# Altium footprint library TERM_3.50MM_3x1_0.PcbLib: 1 footprints
Each footprint in its own frame and in the unit in brackets; x right, y up, seen from the top. Pads: shape width x height; smd on the part's side, far side on the other; paste and mask are expansions set on the pad; w line width, h text height; cw(c..) or ccw(c..) is an arc to the next point about the centre after c.
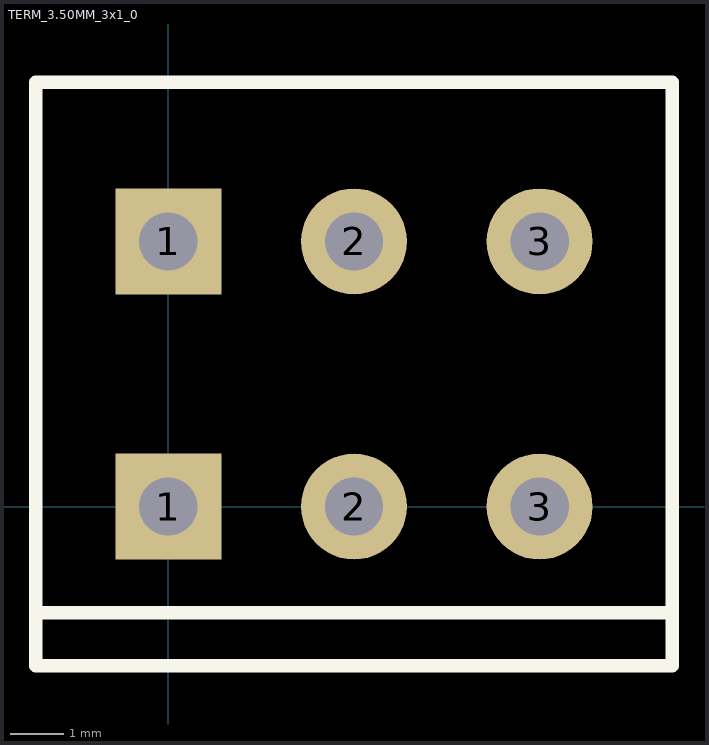
[diagram p0: the footprint, top view; thin cyan lines are the x and y axes]

## TERM_3.50MM_3x1_0 [mm]
pads (6):
  rect 2x2 hole 1.1: 1(0,0) 1(0,5)
  round 2 hole 1.1: 2(3.5,0) 2(3.5,5) 3(7,0) 3(7,5)
Top Overlay:
  lines w0.254: -2.5,-2 9.5,-2 ; -2.5,-3 -2.5,8 9.5,8 9.5,-3 0,-3 -2.5,-3
3D body "1861946.SLDPRT": height 8.98, standoff -2.6, extent -2.5,-3 9.5,8